# EAGLE library part 74LVTH1623374 (library 1_spektrak)
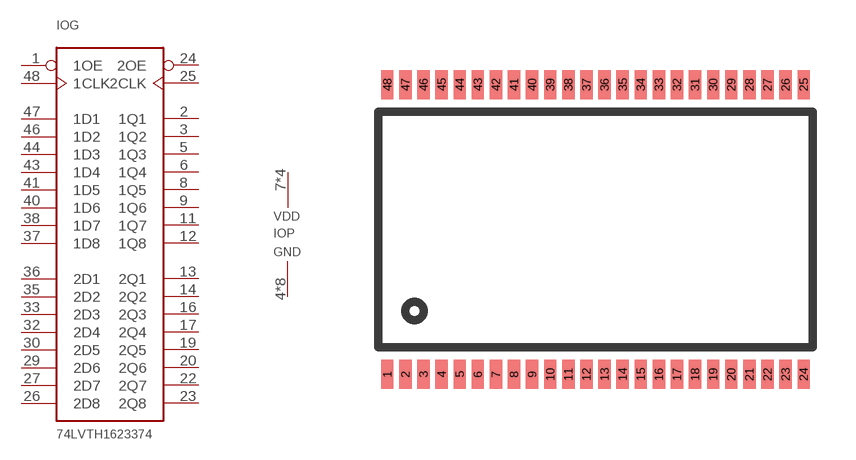
[diagram p6: symbol with the pads of BUFF_48SSOP; footprint BUFF_48SSOP]

Designator prefix IO; gates G=74LVTH162374 P=PWRGND

## 74LVTH1623374  [BUFF_48SSOP]
1  G:1OE  in
2  G:1Q1  out
3  G:1Q2  out
4  P:GND  pwr
5  G:1Q3  out
6  G:1Q4  out
7  P:VDD  pwr
8  G:1Q5  out
9  G:1Q6  out
10  P:GND  pwr
11  G:1Q7  out
12  G:1Q8  out
13  G:2Q1  out
14  G:2Q2  out
15  P:GND  pwr
16  G:2Q3  out
17  G:2Q4  out
18  P:VDD  pwr
19  G:2Q5  out
20  G:2Q6  out
21  P:GND  pwr
22  G:2Q7  out
23  G:2Q8  out
24  G:2OE  in
25  G:2CLK  in
26  G:2D8  in
27  G:2D7  in
28  P:GND  pwr
29  G:2D6  in
30  G:2D5  in
31  P:VDD  pwr
32  G:2D4  in
33  G:2D3  in
34  P:GND  pwr
35  G:2D2  in
36  G:2D1  in
37  G:1D8  in
38  G:1D7  in
39  P:GND  pwr
40  G:1D6  in
41  G:1D5  in
42  P:VDD  pwr
43  G:1D4  in
44  G:1D3  in
45  P:GND  pwr
46  G:1D2  in
47  G:1D1  in
48  G:1CLK  in

## Footprint BUFF_48SSOP (pad centres in mm)
smd 0.432 x 1.016: 1 -6.985,-5.08; 2 -6.35,-5.08; 3 -5.715,-5.08; 4 -5.08,-5.08; 5 -4.445,-5.08; 6 -3.81,-5.08; 7 -3.175,-5.08; 8 -2.54,-5.08; 9 -1.905,-5.08; 10 -1.27,-5.08; 11 -0.635,-5.08; 12 0,-5.08; 13 0.635,-5.08; 14 1.27,-5.08; 15 1.905,-5.08; 16 2.54,-5.08; 17 3.175,-5.08; 18 3.81,-5.08; 19 4.445,-5.08; 20 5.08,-5.08; 21 5.715,-5.08; 22 6.35,-5.08; 23 6.985,-5.08; 24 7.62,-5.08; 25 7.62,5.08; 26 6.985,5.08; 27 6.35,5.08; 28 5.715,5.08; 29 5.08,5.08; 30 4.445,5.08; 31 3.81,5.08; 32 3.175,5.08; 33 2.54,5.08; 34 1.905,5.08; 35 1.27,5.08; 36 0.635,5.08; 37 0,5.08; 38 -0.635,5.08; 39 -1.27,5.08; 40 -1.905,5.08; 41 -2.54,5.08; 42 -3.175,5.08; 43 -3.81,5.08; 44 -4.445,5.08; 45 -5.08,5.08; 46 -5.715,5.08; 47 -6.35,5.08; 48 -6.985,5.08